# EAGLE library part SW-INCL-ENCODER (library mylib)
ALPS rotary Encoder EC12E series with switch
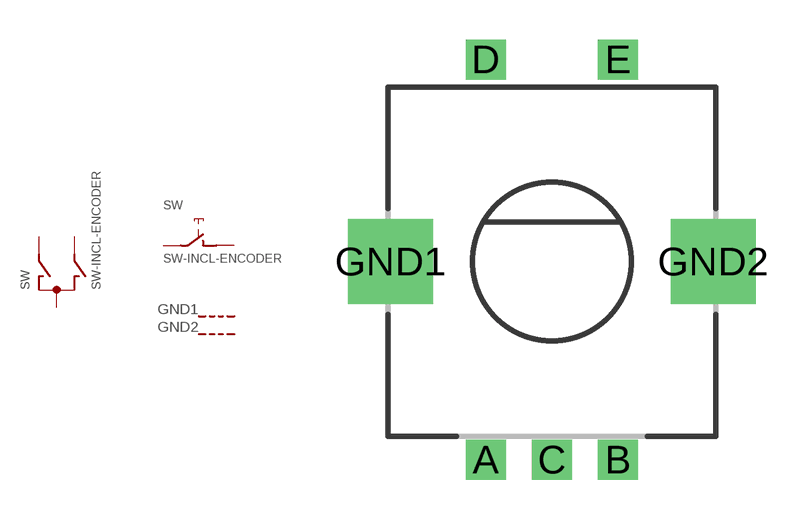
[diagram p58: symbol with the pads of SW-INCL-ENCODER; footprint SW-INCL-ENCODER]

Designator prefix SW; gates G$1=SW-ENCODER-A G$2=SW-ENCODER-B G$3=SW-ENCODER-C G$4=SW-ENCODER-C

## SW-INCL-ENCODER  [SW-INCL-ENCODER]
A  G$1:A  pas
B  G$1:B  pas
C  G$1:C  pas
D  G$2:1  pas
E  G$2:2  pas
GND1  G$3:G  pas
GND2  G$4:G  pas

## Footprint SW-INCL-ENCODER (pad centres in mm)
ALPS rotary encoder EC12E series with push-on switch
drill 1 square: A -2.5,-7.5; B 2.5,-7.5; C 0,-7.5; D -2.5,7.635; E 2.5,7.635
drill 2.2 square: GND1 -6.1,0; GND2 6.1,0